# Altium integrated library STM32F031G6U6.IntLib: 1 symbol
Pins are listed as number, name and electrical type; pins without a type are passive.

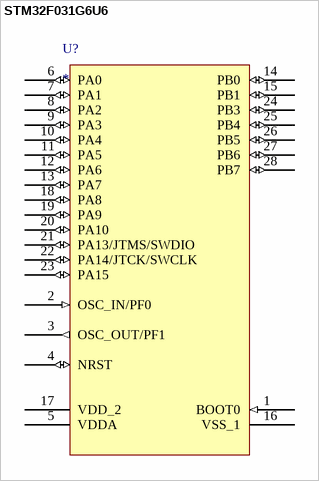
[diagram p0: symbol STM32F031G6U6]

## STM32F031G6U6
designator U?
ID: STM32F031G6U6; BUY_LINK: http://www.digikey.com/product-detail/en/STM32F031G6U6/497-13620-ND/3947372; PRICE: 2.60000; PDF: http://www.st.com/st-web-ui/static/active/en/resource/technical/document/datasheet/DM00104043.pdf
footprint UFQFPN28
pins: 1 BOOT0 (in), 2 OSC_IN/PF0 (in), 3 OSC_OUT/PF1 (out), 4 NRST (io), 5 VDDA (power), 6 PA0 (io), 7 PA1 (io), 8 PA2 (io), 9 PA3 (io), 10 PA4 (io), 11 PA5 (io), 12 PA6 (io), 13 PA7 (io), 14 PB0 (io), 15 PB1 (io), 16 VSS_1 (power), 17 VDD_2 (power), 18 PA8 (io), 19 PA9 (io), 20 PA10 (io), 21 PA13/JTMS/SWDIO (io), 22 PA14/JTCK/SWCLK (io), 23 PA15 (io), 24 PB3 (io), 25 PB4 (io), 26 PB5 (io), 27 PB6 (io), 28 PB7 (io)